# Altium footprint library Powerpcblib.PcbLib: 29 footprints (part 2 of 2)
Each footprint in its own frame and in the unit in brackets; x right, y up, seen from the top. Pads: shape width x height; smd on the part's side, far side on the other; paste and mask are expansions set on the pad; w line width, h text height; cw(c..) or ccw(c..) is an arc to the next point about the centre after c.
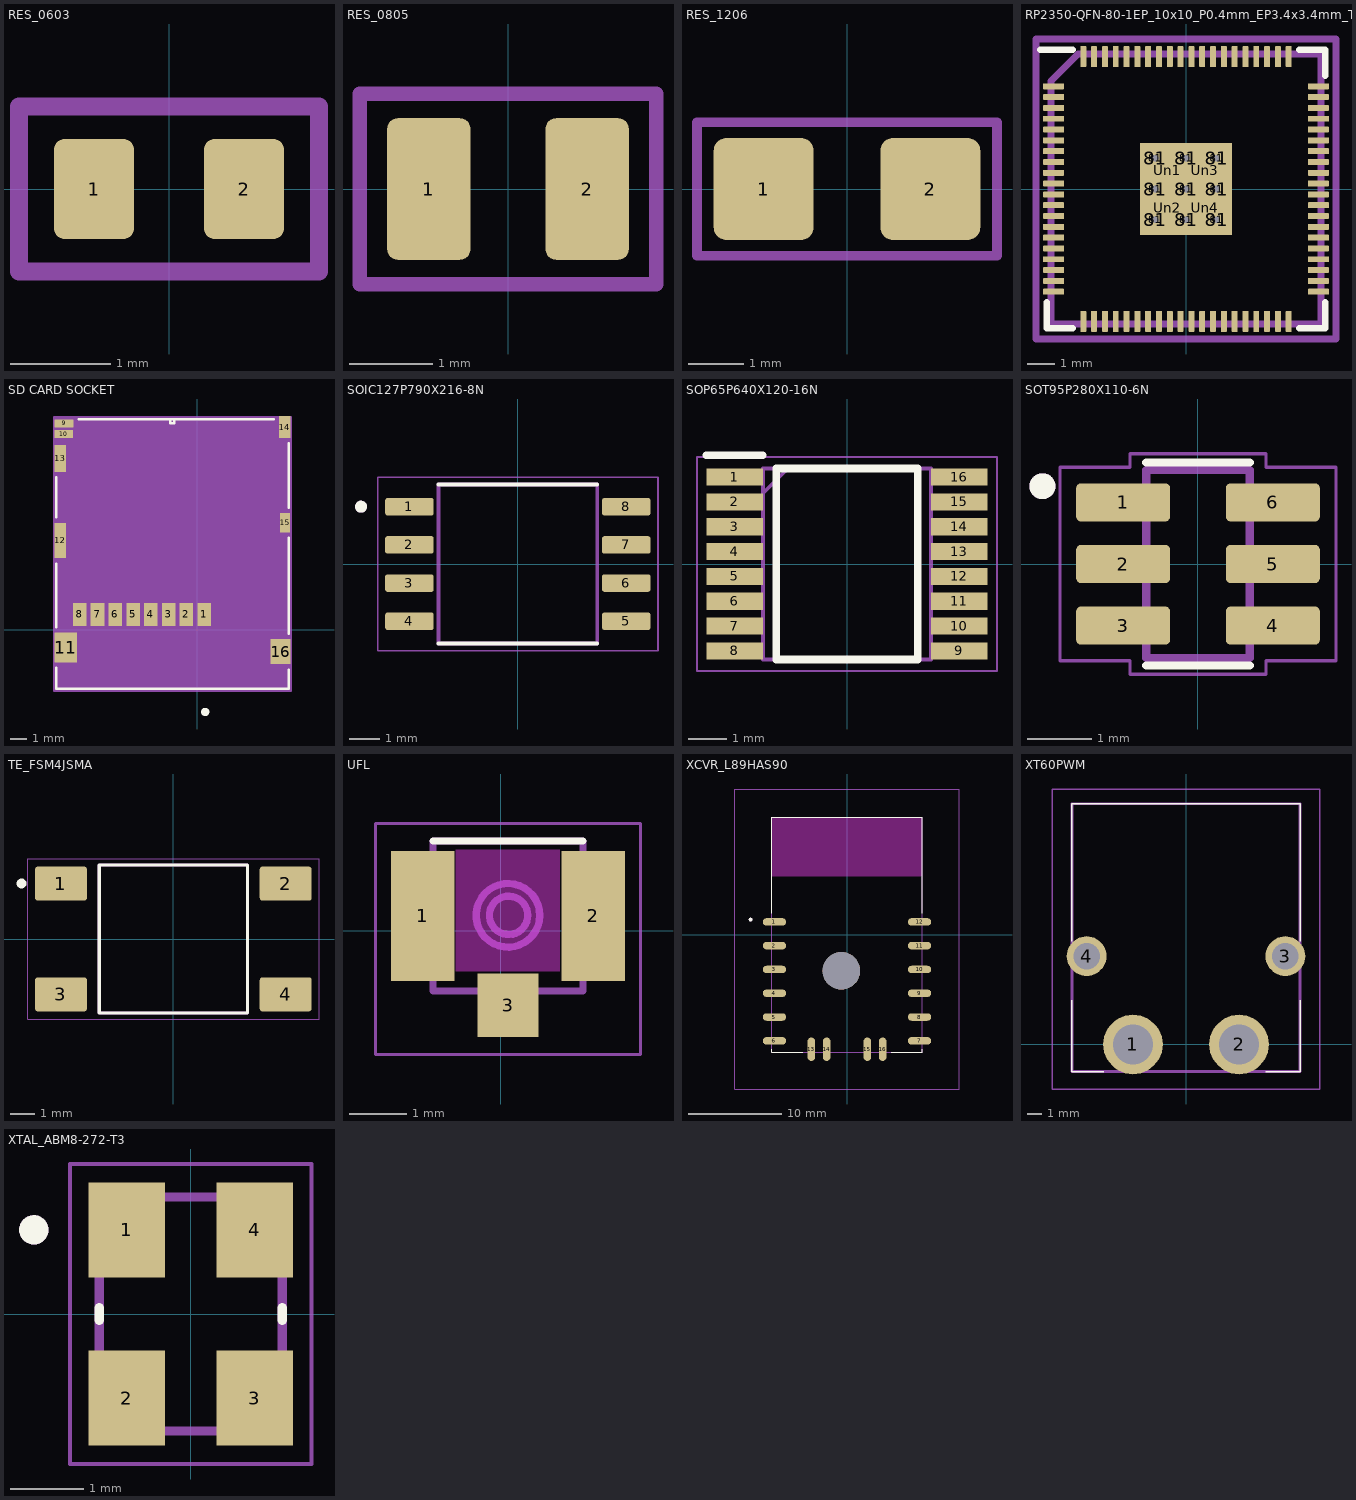
[diagram p1: the footprints below, top view; thin cyan lines are the x and y axes]

## RES_0603 [mm]
pads (2):
  rrect25% 0.8x1 smd: 1(-0.75,0) 2(0.75,0)
Mechanical 13:
  lines w0.175: -1.5,-0.825 -1.5,0.825 1.5,0.825 1.5,-0.825 -1.5,-0.825
  text "'.Designator'" at -5.665,-0.417 h1
3D body "R0603.step": height 0.52, standoff 0.01, extent -0.8,-0.43 0.8,0.43

## RES_0805 [mm]
pads (2):
  rrect25% 1x1.7 smd: 1(-0.95,0) 2(0.95,0)
Mechanical 13:
  lines w0.175: -1.778,-1.143 -1.778,1.143 1.778,1.143 1.778,-1.143 -1.778,-1.143
  text "'.Designator'" at -5.665,-0.417 h1
3D body "R0805.step": height 0.47, standoff 0.01, extent -1,-0.63 1,0.63

## RES_1206 [mm]
pads (2):
  rrect25% 1.8x1.84 smd: 1(-1.5,0) 2(1.5,0)
Mechanical 13:
  lines w0.175: -2.7,-1.2 -2.7,1.2 2.7,1.2 2.7,-1.2 -2.7,-1.2
  text "'.Designator'" at -5.665,-0.417 h1
3D body "R1206.step": height 0.57, standoff 0.01, extent -1.6,-0.83 1.6,0.83

## RP2350-QFN-80-1EP_10x10_P0.4mm_EP3.4x3.4mm_ThermalVias [mm]
pads (102):
  rrect25% 0.78x0.22 smd: 1(-4.897,3.8) 2(-4.897,3.4) 3(-4.897,3) 4(-4.897,2.6) 5(-4.897,2.2) 6(-4.897,1.8) 7(-4.897,1.4) 8(-4.897,1) 9(-4.897,0.6) 10(-4.897,0.2) 11(-4.897,-0.2) 12(-4.897,-0.6) 13(-4.897,-1) 14(-4.897,-1.4) 15(-4.897,-1.8) 16(-4.897,-2.2) 17(-4.897,-2.6) 18(-4.897,-3) 19(-4.897,-3.4) 20(-4.897,-3.8) 41(4.897,-3.8) 42(4.897,-3.4) 43(4.897,-3) 44(4.897,-2.6) 45(4.897,-2.2) 46(4.897,-1.8) 47(4.897,-1.4) 48(4.897,-1) 49(4.897,-0.6) 50(4.897,-0.2) 51(4.897,0.2) 52(4.897,0.6) 53(4.897,1) 54(4.897,1.4) 55(4.897,1.8) 56(4.897,2.2) 57(4.897,2.6) 58(4.897,3) 59(4.897,3.4) 60(4.897,3.8)
  rrect25% 0.22x0.78 smd: 21(-3.8,-4.897) 22(-3.4,-4.897) 23(-3,-4.897) 24(-2.6,-4.897) 25(-2.2,-4.897) 26(-1.8,-4.897) 27(-1.4,-4.897) 28(-1,-4.897) 29(-0.6,-4.897) 30(-0.2,-4.897) 31(0.2,-4.897) 32(0.6,-4.897) 33(1,-4.897) 34(1.4,-4.897) 35(1.8,-4.897) 36(2.2,-4.897) 37(2.6,-4.897) 38(3,-4.897) 39(3.4,-4.897) 40(3.8,-4.897) 61(3.8,4.897) 62(3.4,4.897) 63(3,4.897) 64(2.6,4.897) 65(2.2,4.897) 66(1.8,4.897) 67(1.4,4.897) 68(1,4.897) 69(0.6,4.897) 70(0.2,4.897) 71(-0.2,4.897) 72(-0.6,4.897) 73(-1,4.897) 74(-1.4,4.897) 75(-1.8,4.897) 76(-2.2,4.897) 77(-2.6,4.897) 78(-3,4.897) 79(-3.4,4.897) 80(-3.8,4.897)
  rect 1.133x1.133 smd: 81(-1.133,-1.133) 81(-1.133,0) 81(-1.133,1.133) 81(0,-1.133) 81(0,0) 81(0,1.133) 81(1.133,-1.133) 81(1.133,0) 81(1.133,1.133)
  round 0.6 hole 0.25: 81(-1.133,-1.133) 81(-1.133,0) 81(-1.133,1.133) 81(0,-1.133) 81(0,0) 81(0,1.133) 81(1.133,-1.133) 81(1.133,0) 81(1.133,1.133)
  rrect21% 1.2x1.2 on Top Paste: Un1(-0.7,0.7) Un2(-0.7,-0.7) Un3(0.7,0.7) Un4(0.7,-0.7)
Top Overlay:
  lines w0.254: -5.39,5.15 -4.2,5.15 ; -5.15,-4.2 -5.15,-5.15 -4.2,-5.15 ; 4.2,-5.15 5.15,-5.15 5.15,-4.2 ; 4.2,5.15 5.15,5.15 5.15,4.2
Mechanical 4:
  lines w0.254: -5.55,-5.55 5.55,-5.55 5.55,5.55 -5.55,5.55 -5.55,-5.55
Mechanical 6:
  lines w0.254: -5,-5 5,-5 5,5 -4,5 -5,4 -5,-5

## SD CARD SOCKET [mil]
pads (16):
  rect 33x56 smd paste+0 mask+0: 1(17.36,37.53) 2(-25.94,37.53) 3(-69.25,37.53) 4(-112.56,37.53) 5(-155.87,37.53) 6(-199.17,37.53) 7(-242.48,37.53) 8(-285.79,37.53)
  rect 46x19 smd paste+0 mask+0: 9(-323.78,503.08)
  rect 44x19 smd paste+0 mask+0: 10(-324.76,477.09)
  rect 55x73 smd paste+0 mask+0: 11(-319.84,-43.18)
  rect 28x86 smd paste+0 mask+0: 12(-333.62,217.84)
  rect 28x65 smd paste-32.5 mask-32.5: 13(-333.62,417.84)
  rect 28x53 smd paste-26.5 mask-26.5: 14(213.62,494.22)
  rect 25x47 smd paste-23.5 mask-23.5: 15(214.61,260.95)
  rect 48x61 smd paste-30.5 mask-30.5: 16(203.58,-53.02)
Top Overlay:
  circle w10: c20,-200 r5
  lines w6: -343.5,-92.78 -343.5,-143 223.5,-143 223.5,-96.62 ; -343.5,6.42 -343.5,161.74 ; -343.5,273.94 -343.5,372.24 ; -287.69,513 186.52,513 ; 223.5,-9.42 223.5,224.35 ; 223.5,297.55 223.5,454.62 ; -65,503 -55,503 -55,513 -65,513 -65,503
Mechanical 13:
  lines w1: -338.5,-138 218.5,-138 218.5,508 -338.5,508 -338.5,-138
  text "*" at 0,-40 h50
Mechanical 15:
  region: 228.5,-148 228.5,518 -348.5,518 -348.5,-148
  lines w6: -348.5,-148 -348.5,518 228.5,518 228.5,-148 -348.5,-148

## SOIC127P790X216-8N [mm]
height 2.16
pads (8):
  rrect25% 1.61x0.58 smd: 1(-3.605,1.905) 2(-3.605,0.635) 3(-3.605,-0.635) 4(-3.605,-1.905) 5(3.605,-1.905) 6(3.605,-0.635) 7(3.605,0.635) 8(3.605,1.905)
Top Overlay:
  circle w0.2: c-5.215,1.905 r0.1
  lines w0.127: -2.64,-2.64 2.64,-2.64 ; -2.64,2.64 2.64,2.64
Mechanical 13:
  circle w0.2: c-5.215,1.905 r0.1
  lines w0.127: -2.64,-2.64 -2.64,2.64 2.64,2.64 2.64,-2.64 -2.64,-2.64
Mechanical 15:
  lines w0.05: -4.66,-2.89 -4.66,2.89 4.66,2.89 4.66,-2.89 -4.66,-2.89
3D body "step_temp.STEP": height 2.16, standoff 0, extent -3.95,-2.64 3.95,2.64

## SOP65P640X120-16N [mm]
pads (16):
  rect 1.475x0.45 smd: 1(-2.938,2.275) 2(-2.938,1.625) 3(-2.938,0.975) 4(-2.938,0.325) 5(-2.938,-0.325) 6(-2.938,-0.975) 7(-2.938,-1.625) 8(-2.938,-2.275) 9(2.938,-2.275) 10(2.938,-1.625) 11(2.938,-0.975) 12(2.938,-0.325) 13(2.938,0.325) 14(2.938,0.975) 15(2.938,1.625) 16(2.938,2.275)
Top Overlay:
  lines w0.2: -3.675,2.85 -2.2,2.85 ; -1.85,-2.5 1.85,-2.5 1.85,2.5 -1.85,2.5 -1.85,-2.5
Mechanical 13:
  lines w0.1: -2.2,1.85 -1.55,2.5 ; -2.2,-2.5 2.2,-2.5 2.2,2.5 -2.2,2.5 -2.2,-2.5
Mechanical 15:
  lines w0.05: -3.925,-2.8 3.925,-2.8 3.925,2.8 -3.925,2.8 -3.925,-2.8
3D body "INA260AIPWR.stp": height 1.13, standoff 0, extent -3.2,-2.5 3.2,2.5

## SOT95P280X110-6N [mm]
pads (6):
  rrect25% 1.45x0.59 smd: 1(-1.155,0.95) 2(-1.155,0) 3(-1.155,-0.95) 4(1.155,-0.95) 5(1.155,0) 6(1.155,0.95)
Top Overlay:
  circle w0.2: c-2.4,1.2 r0.1
  lines w0.127: -0.8,-1.565 0.8,-1.565 ; -0.8,1.565 0.8,1.565
Mechanical 13:
  circle w0.2: c-2.4,1.2 r0.1
  lines w0.127: -0.8,-1.45 0.8,-1.45 0.8,1.45 -0.8,1.45 -0.8,-1.45
Mechanical 15:
  lines w0.05: -2.13,-1.495 -1.05,-1.495 -1.05,-1.7 1.05,-1.7 1.05,-1.495 2.13,-1.495 2.13,1.495 1.05,1.495 1.05,1.7 -1.05,1.7 -1.05,1.495 -2.13,1.495 -2.13,-1.495
3D body "step_temp.STEP": height 1.1, standoff 0, extent -1.4,-1.45 1.4,1.45

## TE_FSM4JSMA [mm]
pads (4):
  rrect15% 2.1x1.38 smd: 1(-4.55,2.24) 2(4.55,2.24) 3(-4.55,-2.24) 4(4.55,-2.24)
Top Overlay:
  circle w0.2: c-6.151,2.249 r0.1
  lines w0.127: -3,-3 3,-3 3,3 -3,3 -3,-3
Mechanical 13:
  lines w0.127: -3,-3 -3,3 3,3 3,-3 -3,-3
Mechanical 15:
  lines w0.05: -5.9,-3.25 -5.9,3.25 5.9,3.25 5.9,-3.25 -5.9,-3.25
3D body "step_temp.STEP": height 5.07, standoff 0, extent -5,-3 5,3

## UFL [mm]
pads (3):
  rect 1.1x2.25 smd: 1(-1.348,0.254) 2(1.602,0.254)
  rect 1.05x1.1 smd: 3(0.127,-1.296)
Top Overlay:
  lines w0.127: -1.173,1.554 1.427,1.554
Keep-Out Layer:
  region: 1.027,-0.709 -0.776,-0.709 -0.776,1.404 1.027,1.404
Mechanical 13:
  circle w0.127: c0.137,0.264 r0.332
  circle w0.127: c0.127,0.264 r0.552
  lines w0.127: -1.203,1.134 -1.203,1.124 -1.443,1.124 -1.443,-0.616 -1.173,-0.616 ; 1.467,-0.616 1.697,-0.616 1.697,1.124 1.507,1.124 ; -1.173,-0.616 -1.173,-1.046 1.427,-1.046 1.427,1.554 -1.173,1.554 -1.173,-0.616
Mechanical 14:
  lines w0.127: 1.467,-0.656 1.467,-0.646
Mechanical 15:
  lines w0.05: -2.173,-2.146 -2.173,1.854 2.427,1.854 2.427,-2.146 -2.173,-2.146
3D body "step_temp.STEP": height 1.25, standoff 0, extent -1.373,-1.296 1.627,1.804

## XCVR_L89HAS90 [mm]
pads (17):
  oval 2.5x0.8 smd: 1(-7.75,1.35) 2(-7.75,-1.19) 3(-7.75,-3.73) 4(-7.75,-6.27) 5(-7.75,-8.81) 6(-7.75,-11.35) 7(7.75,-11.35) 8(7.75,-8.81) 9(7.75,-6.27) 10(7.75,-3.73) 11(7.75,-1.19) 12(7.75,1.35)
  oval 0.8x2.5 smd: 13(-3.81,-12.25) 14(-2.17,-12.25) 15(2.17,-12.25) 16(3.81,-12.25)
  round 4 hole 4 unplated: ""(-0.6,-3.87)
Top Overlay:
  circle w0.2: c-10.3,1.6 r0.1
  lines w0.127: -8.05,-12.25 -8.05,-12.55 -4.75,-12.55 ; -8.05,2.25 -8.05,12.55 8.05,12.55 8.05,2.25 ; 4.75,-12.55 8.05,-12.55 8.05,-12.25
Keep-Out Layer:
  region: 8,6.25 -8,6.25 -8,12.5 8,12.5
  region: 8,6.25 -8,6.25 -8,12.5 8,12.5
Mechanical 13:
  circle w0.2: c-10.3,1.6 r0.1
  lines w0.127: -8.05,-12.55 8.05,-12.55 8.05,12.55 -8.05,12.55 -8.05,-12.55
Mechanical 15:
  lines w0.05: -12,-16.5 12,-16.5 12,15.55 -12,15.55 -12,-16.5
3D body "step_temp.STEP": height 7.25, standoff 0, extent -9.49,-12.5 8.91,13.9

## XT60PWM [mm]
pads (4):
  round 4.05 hole 2.7: 1(-3.6,0) 2(3.6,0)
  round 2.7 hole 1.8: 3(6.75,6) 4(-6.75,6)
Top Overlay:
  lines w0.1: -7.75,3 -7.75,-1.85 -5.6,-1.85 ; -7.75,7 -7.75,16.35 7.75,16.35 7.75,7 ; 5.4,-1.85 7.75,-1.85 7.75,3
Mechanical 13:
  lines w0.2: -7.75,-1.85 -7.75,16.35 7.75,16.35 7.75,-1.85 -7.75,-1.85
Mechanical 15:
  lines w0.1: -9.1,-3.025 -9.1,17.35 9.1,17.35 9.1,-3.025 -9.1,-3.025
3D body "XT60PW-M.stp": height 8.44, standoff -2.51, extent -7.95,-1.98 7.95,16.298

## XTAL_ABM8-272-T3 [mm]
height 0.8
pads (4):
  rect 1.05x1.3 smd: 1(-0.875,1.15) 2(-0.875,-1.15) 3(0.875,-1.15) 4(0.875,1.15)
Top Overlay:
  circle w0.2: c-2.145,1.15 r0.1
  lines w0.127: -1.25,-0.085 -1.25,0.085 ; 1.25,-0.085 1.25,0.085
Mechanical 13:
  circle w0.2: c-2.145,1.15 r0.1
  lines w0.127: -1.25,-1.6 1.25,-1.6 1.25,1.6 -1.25,1.6 -1.25,-1.6
Mechanical 15:
  lines w0.05: -1.65,-2.05 1.65,-2.05 1.65,2.05 -1.65,2.05 -1.65,-2.05
3D body "step_temp.STEP": height 0.7, standoff 0, extent -1.25,-1.6 1.25,1.6